# Altium integrated library ADS1115 MODULE.IntLib: 1 symbol
Pins are listed as number, name and electrical type; pins without a type are passive.

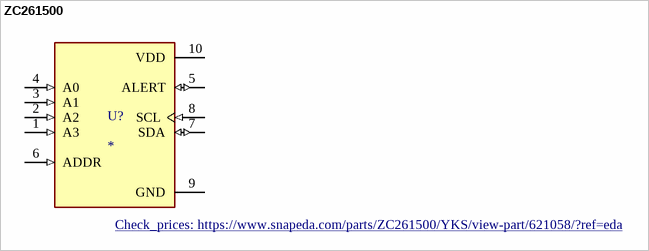
[diagram p0: symbol ZC261500]

## ZC261500
designator U?
ADS1115 Module ADC 4 channel with Pro Gain Amplifier for Arduino RPi; MP: ZC261500; MF: YKS; Value: *; SnapEDA_Link: https://www.snapeda.com/parts/ZC261500/YKS/view-part/621058/?ref=snap; Availability: Unavailable; Price: None; Package: None; Check_prices: https://www.snapeda.com/parts/ZC261500/YKS/view-part/621058/?ref=eda
footprint MODULE_ZC261500
pins: 1 A3 (in), 2 A2 (in), 3 A1 (in), 4 A0 (in), 5 ALERT (io), 6 ADDR (in), 7 SDA (io), 8 SCL (in), 9 GND (power), 10 VDD (power)